# Altium footprint library MDM-15.PcbLib: 1 footprints
Each footprint in its own frame and in the unit in brackets; x right, y up, seen from the top. Pads: shape width x height; smd on the part's side, far side on the other; paste and mask are expansions set on the pad; w line width, h text height; cw(c..) or ccw(c..) is an arc to the next point about the centre after c.
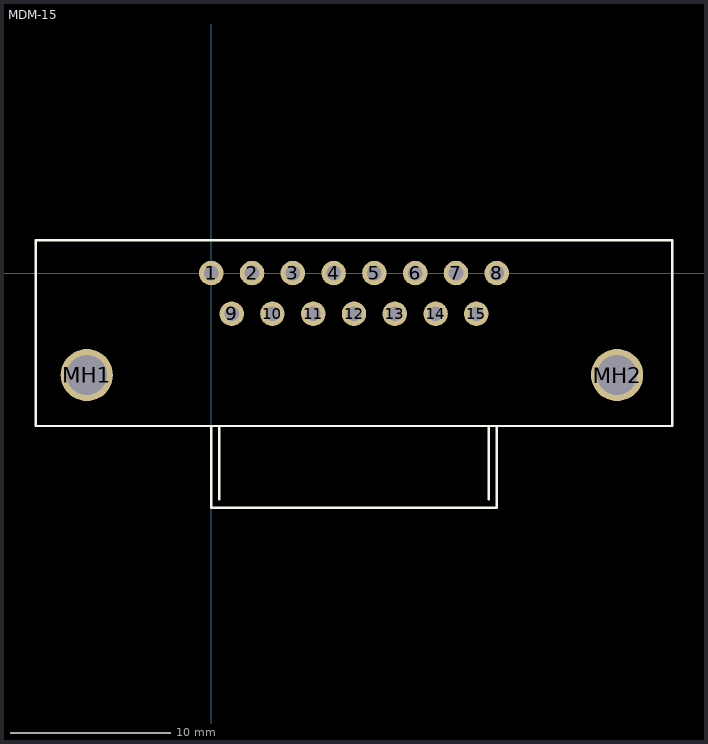
[diagram p0: the footprint, top view; thin cyan lines are the x and y axes]

## MDM-15 [mil]
pads (17):
  round 60 hole 36: 1(0,0) 2(100,0) 3(200,0) 4(300,0) 5(400,0) 6(500,0) 7(600,0) 8(700,0) 9(50,-100) 10(150,-100) 11(250,-100) 12(350,-100) 13(450,-100) 14(550,-100) 15(650,-100)
  round 128 hole 98.43: MH1(-305,-250) MH2(995,-250)
Top Overlay:
  lines w6: 20,-555 20,-375 ; 400,-375 0,-375 0,-575 700,-575 700,-375 ; 680,-555 680,-375 ; -430,-375 -430,80 1130,80 1130,-375 -430,-375
3D body "C115366_9008C_3.sldprt": height 340.35, standoff -195.08, extent -416.73,-562.52 1116.73,80